# EAGLE library part HPGL3700 (library isb_optical)
Optocoupler: HPGL3700 Order numbers (DIP8): - Reichelt: ??? - CSD-Electronics: N/A
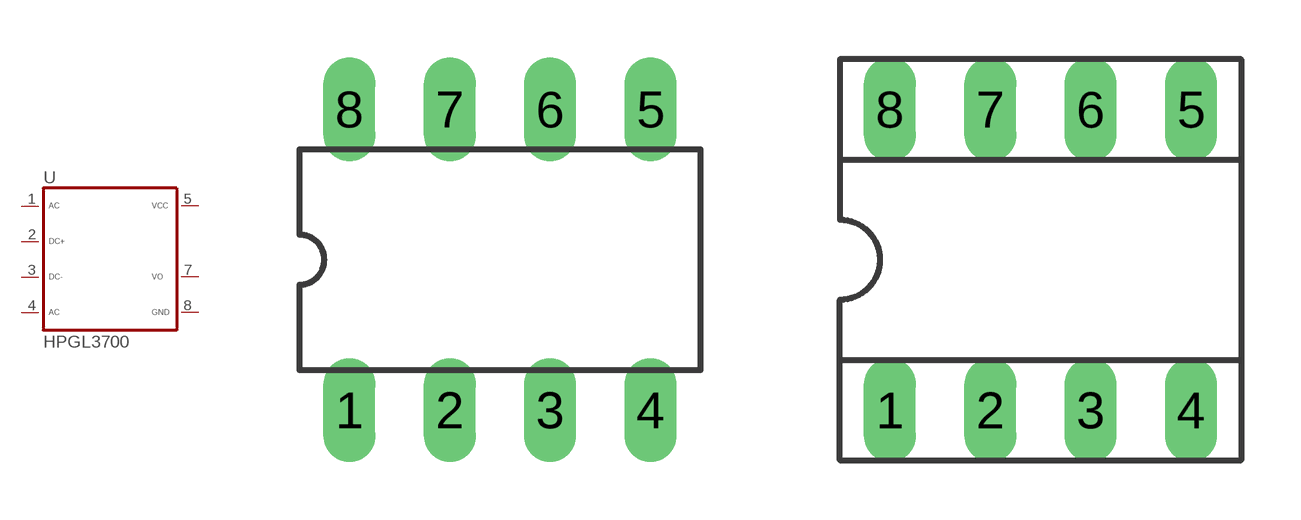
[diagram p1: symbol with the pads of DIL08; footprints DIL08, DIL08S]

Designator prefix -

## HPGL3700  [DIL08]
1  AC1  pas
2  DC+  pas
3  DC-  pas
4  AC2  pas
5  VCC  pas
7  VO  pas
8  GND  pas

## HPGL3700S  [DIL08S]
Pads as for DIL08

## Footprint DIL08 (pad centres in mm)
Dual In Line
drill 0.813 long: 1 -3.81,-3.81; 2 -1.27,-3.81; 3 1.27,-3.81; 4 3.81,-3.81; 5 3.81,3.81; 6 1.27,3.81; 7 -1.27,3.81; 8 -3.81,3.81

## Footprint DIL08S (pad centres in mm)
Dual In Line Socked
drill 0.813 long: 1 -3.81,-3.81; 2 -1.27,-3.81; 3 1.27,-3.81; 4 3.81,-3.81; 5 3.81,3.81; 6 1.27,3.81; 7 -1.27,3.81; 8 -3.81,3.81